# Altium footprint library Logo.PcbLib: 5 footprints
Each footprint in its own frame and in the unit in brackets; x right, y up, seen from the top. Pads: shape width x height; smd on the part's side, far side on the other; paste and mask are expansions set on the pad; w line width, h text height; cw(c..) or ccw(c..) is an arc to the next point about the centre after c.
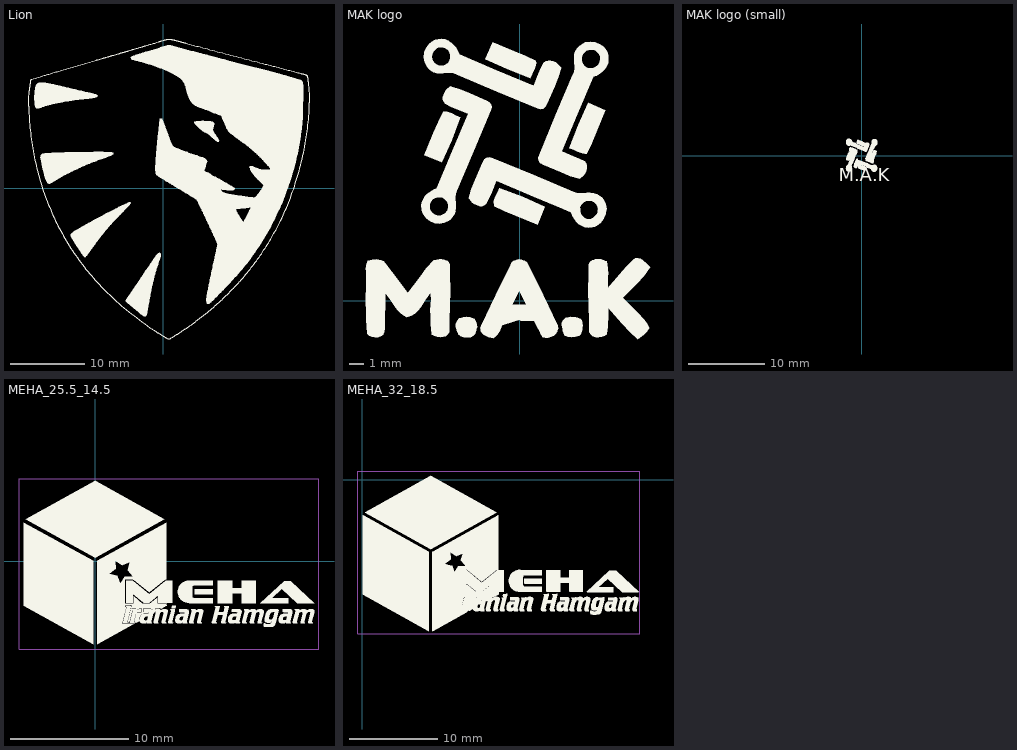
[diagram p0: the footprints below, top view; thin cyan lines are the x and y axes]

## Lion [mm]
Top Overlay:
  drawing of 3342 lines, arcs and shapes, not listed

## MAK logo [mm]
Top Overlay:
  drawing of 291 lines, arcs and shapes, not listed

## MAK logo (small) [mm]
Top Overlay:
  drawing of 443 lines, arcs and shapes, not listed
  text "M.A.K" at -3,-3.983 h3

## MEHA_25.5_14.5 [mm]
Top Overlay:
  drawing of 32 lines, arcs and shapes, not listed
Mechanical 13:
  lines w0.01: -6.5,-7.5 -6.5,7 19,7 19,-7.5 -6.5,-7.5

## MEHA_32_18.5 [mm]
Top Overlay:
  drawing of 3683 lines, arcs and shapes, not listed
Mechanical 1:
  lines w0.01: -0.5,-17.5 -0.5,1 31.5,1 31.5,-17.5 -0.5,-17.5